# EAGLE library part AD8221 (library op-amp)
Precision Instrumentation Amplifier
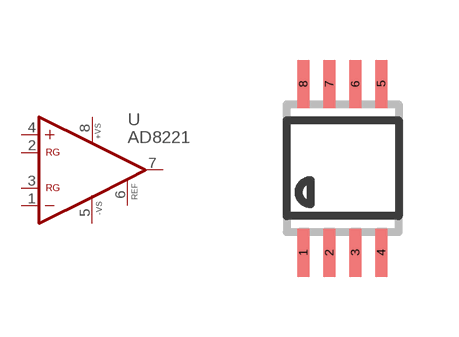
[diagram p77: symbol with the pads of MSOP08; footprint MSOP08]

Designator prefix U

## AD8221  [MSOP08]
1  -IN  in
2  RG  in
3  RG  in
4  +IN  in
5  -VS  pwr
6  VREF  pwr
7  OUT  out
8  +VS  pwr

## Footprint MSOP08 (pad centres in mm)
Mini Small Outline Package
smd 0.3 x 1.2: 1 -0.976,-2.113; 2 -0.326,-2.113; 3 0.324,-2.113; 4 0.974,-2.113; 5 0.974,2.112; 6 0.324,2.112; 7 -0.326,2.112; 8 -0.976,2.112